# Altium footprint library SJ2-35043C-SMT-TR.PcbLib: 1 footprints
Each footprint in its own frame and in the unit in brackets; x right, y up, seen from the top. Pads: shape width x height; smd on the part's side, far side on the other; paste and mask are expansions set on the pad; w line width, h text height; cw(c..) or ccw(c..) is an arc to the next point about the centre after c.
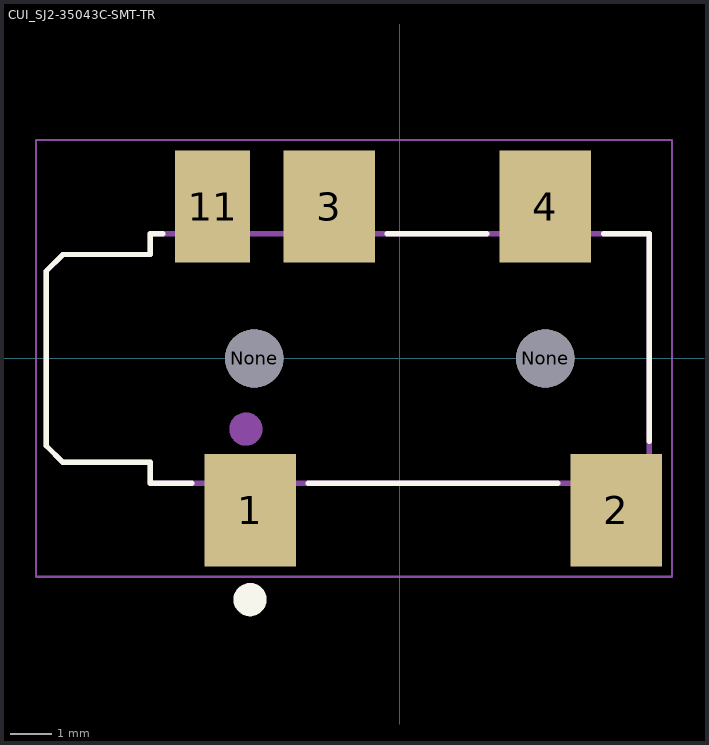
[diagram p0: the footprint, top view; thin cyan lines are the x and y axes]

## CUI_SJ2-35043C-SMT-TR [mm]
pads (7):
  rect 2.2x2.7 smd: 1(-3.6,-3.65) 2(5.2,-3.65) 3(-1.7,3.65) 4(3.5,3.65)
  rect 1.8x2.7 smd: 11(-4.5,3.65)
  round 1.4 hole 1.4 unplated: None(-3.5,0) None(3.5,0)
Top Overlay:
  circle w0.4: c-3.6,-5.8 r0.2
  lines w0.127: -5.7,3 -6,3 -6,2.5 -8.1,2.5 -8.5,2.1 -8.5,-2.1 -8.1,-2.5 -6,-2.5 -6,-3 -5,-3 ; -2.2,-3 3.8,-3 ; -0.3,3 2.1,3 ; 4.9,3 6,3 6,-2
Mechanical 1:
  circle w0.4: c-3.7,-1.7 r0.2
  lines w0.127: -8.5,-2.1 -8.1,-2.5 -6,-2.5 -6,-3 6,-3 6,3 -6,3 -6,2.5 -8.1,2.5 -8.5,2.1 -8.5,-2.1
Mechanical 4:
  lines w0.05: -8.75,-5.25 -8.75,5.25 6.55,5.25 6.55,-5.25 -8.75,-5.25